# Altium integrated library TI_Logic_Specialty_Logic.IntLib: 2504 symbols (part 24 of 81)
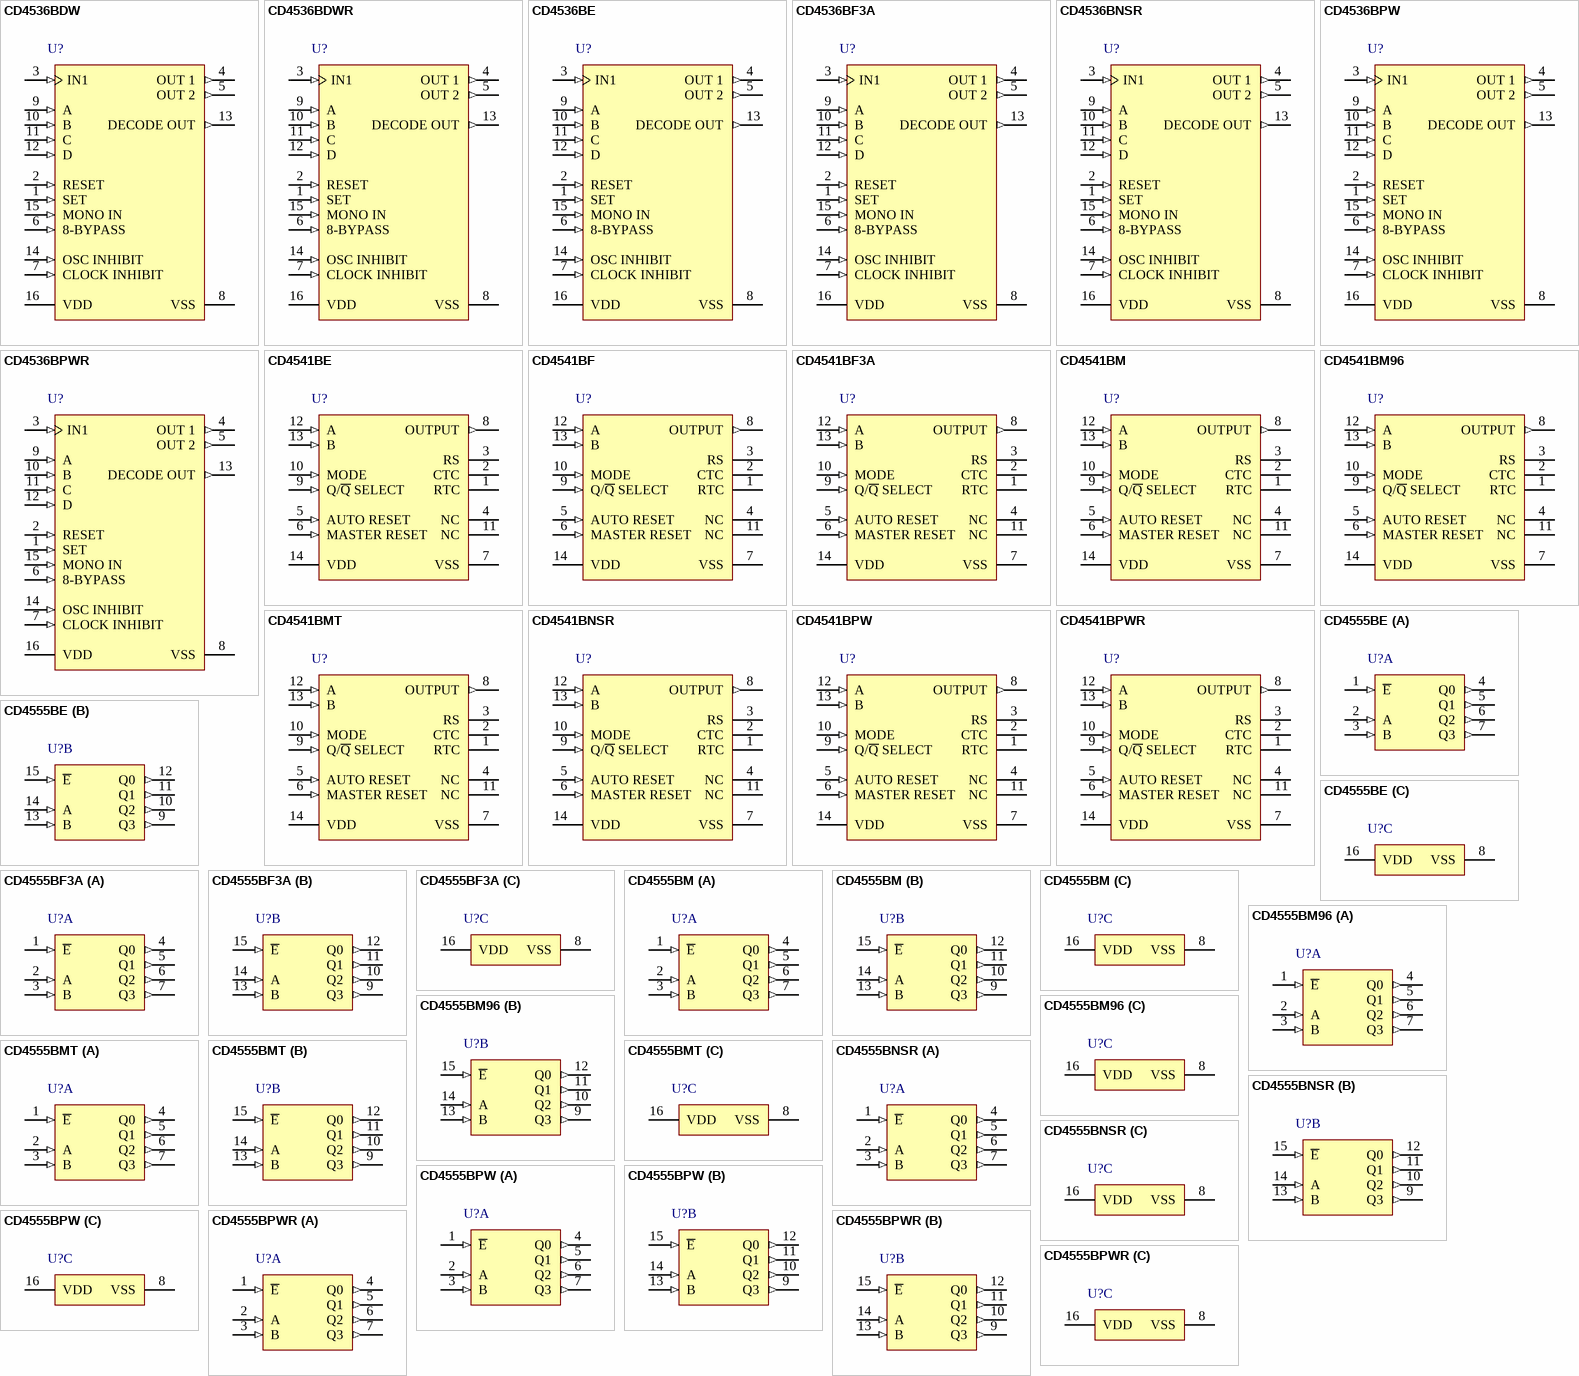
[diagram p127: symbols CD4536BDW to CD4555BPWR]

## CD4536BDWR
designator U?
CMOS Programmable Timer, DW0016A, LARGE T&R; Generic Part Number: CD4536B; Manufacturer: Texas Instruments; PartNumber: CD4536BDWR; VCC(Max)(V): 18; VCC(Min)(V): 3; ICC @ Nom Voltage(Max)(mA): 0.3; Bits(#): 4; F @ Nom Voltage(Max)(Mhz): 8; Rating: Catalog; Technology Family: CD4000; Voltage(Nom)(V): 10; Schmitt Trigger: No; Output Drive (IOL/IOH)(Max)(mA): 4/-4; tpd @ Nom Voltage(Max)(ns): 3000; DatasheetVersion: SCHS083B; PackageReference: DW0016A; Supplier 1: Mouser; Supplier Part Number 1: 595-CD4536BDWR; Supplier 2: Digi-Key; Supplier Part Number 2: 296-31536-2-ND; Supplier 3: Digi-Key; Supplier Part Number 3: 296-31536-1-ND; Supplier 4: Digi-Key; Supplier Part Number 4: 296-31536-6-ND; Output Type: CMOS; Input Type: CMOS; Operating Temperature Range(C): -55 to 125; ComponentLink1Description: Manufacturer URL; ComponentLink1URL: http://www.ti.com/; ComponentLink2Description: Datasheet; ComponentLink2URL: http://www.ti.com/lit/ds/symlink/cd4536b.pdf
footprint DW0016A_N (SOIC, 16-Leads, Body 10.5x7.6mm, Pitch 1.27mm, IPC Medium Density)
footprint DW0016A_M (SOIC, 16-Leads, Body 10.5x7.6mm, Pitch 1.27mm, IPC Low Density)
footprint DW0016A_L (SOIC, 16-Leads, Body 10.5x7.6mm, Pitch 1.27mm, IPC High Density)
pins: 1 SET (in), 2 RESET (in), 3 IN1 (in), 4 OUT 1 (out), 5 OUT 2 (out), 6 8-BYPASS (in), 7 CLOCK INHIBIT (in), 8 VSS (power), 9 A (in), 10 B (in), 11 C (in), 12 D (in), 13 DECODE OUT (out), 14 OSC INHIBIT (in), 15 MONO IN (in), 16 VDD (power)

## CD4536BE
designator U?
CMOS Programmable Timer, N0016A, TUBE; Generic Part Number: CD4536B; Manufacturer: Texas Instruments; PartNumber: CD4536BE; VCC(Max)(V): 18; VCC(Min)(V): 3; ICC @ Nom Voltage(Max)(mA): 0.3; Bits(#): 4; F @ Nom Voltage(Max)(Mhz): 8; Rating: Catalog; Technology Family: CD4000; Voltage(Nom)(V): 10; Schmitt Trigger: No; Output Drive (IOL/IOH)(Max)(mA): 4/-4; tpd @ Nom Voltage(Max)(ns): 3000; DatasheetVersion: SCHS083B; PackageReference: N0016A; Supplier 1: Mouser; Supplier Part Number 1: 595-CD4536BE; Supplier 2: Digi-Key; Supplier Part Number 2: 296-3534-5-ND; Output Type: CMOS; Input Type: CMOS; Operating Temperature Range(C): -55 to 125; ComponentLink1Description: Manufacturer URL; ComponentLink1URL: http://www.ti.com/; ComponentLink2Description: Datasheet; ComponentLink2URL: http://www.ti.com/lit/ds/symlink/cd4536b.pdf
footprint N0016A (DIP, 16-Leads, Body 19.7x6.6mm, Pitch 2.54mm)
pins: 1 SET (in), 2 RESET (in), 3 IN1 (in), 4 OUT 1 (out), 5 OUT 2 (out), 6 8-BYPASS (in), 7 CLOCK INHIBIT (in), 8 VSS (power), 9 A (in), 10 B (in), 11 C (in), 12 D (in), 13 DECODE OUT (out), 14 OSC INHIBIT (in), 15 MONO IN (in), 16 VDD (power)

## CD4536BF3A
designator U?
CMOS Programmable Timer, J0016A, TUBE; Generic Part Number: CD4536B-MIL; Manufacturer: Texas Instruments; PartNumber: CD4536BF3A; VCC(Max)(V): 18; VCC(Min)(V): 3; ICC @ Nom Voltage(Max)(mA): 0.3; Bits(#): 4; F @ Nom Voltage(Max)(Mhz): 8; Rating: Military; Technology Family: CD4000; Voltage(Nom)(V): 10; Output Drive (IOL/IOH)(Max)(mA): 4/-4; tpd @ Nom Voltage(Max)(ns): 3000; DatasheetVersion: SCHS083B; PackageReference: J0016A; Output Type: CMOS; Input Type: CMOS; Operating Temperature Range(C): -55 to 125; ComponentLink1Description: Manufacturer URL; ComponentLink1URL: http://www.ti.com/; ComponentLink2Description: Datasheet; ComponentLink2URL: http://www.ti.com/lit/ds/symlink/cd4536b-mil.pdf
footprint J0016A (DIP, 16-Leads, Body 21.35x7.2mm, Pitch 2.54mm)
pins: 1 SET (in), 2 RESET (in), 3 IN1 (in), 4 OUT 1 (out), 5 OUT 2 (out), 6 8-BYPASS (in), 7 CLOCK INHIBIT (in), 8 VSS (power), 9 A (in), 10 B (in), 11 C (in), 12 D (in), 13 DECODE OUT (out), 14 OSC INHIBIT (in), 15 MONO IN (in), 16 VDD (power)

## CD4536BNSR
designator U?
CMOS Programmable Timer, NS0016A, LARGE T&R; Generic Part Number: CD4536B; Manufacturer: Texas Instruments; PartNumber: CD4536BNSR; VCC(Max)(V): 18; VCC(Min)(V): 3; ICC @ Nom Voltage(Max)(mA): 0.3; Bits(#): 4; F @ Nom Voltage(Max)(Mhz): 8; Rating: Catalog; Technology Family: CD4000; Voltage(Nom)(V): 10; Schmitt Trigger: No; Output Drive (IOL/IOH)(Max)(mA): 4/-4; tpd @ Nom Voltage(Max)(ns): 3000; DatasheetVersion: SCHS083B; PackageReference: NS0016A; Supplier 1: Mouser; Supplier Part Number 1: 595-CD4536BNSR; Supplier 2: Digi-Key; Supplier Part Number 2: 296-14304-2-ND; Supplier 3: Digi-Key; Supplier Part Number 3: 296-14304-1-ND; Supplier 4: Digi-Key; Supplier Part Number 4: 296-14304-6-ND; Output Type: CMOS; Input Type: CMOS; Operating Temperature Range(C): -55 to 125; ComponentLink1Description: Manufacturer URL; ComponentLink1URL: http://www.ti.com/; ComponentLink2Description: Datasheet; ComponentLink2URL: http://www.ti.com/lit/ds/symlink/cd4536b.pdf
footprint NS0016A_N (SOIC,16-Leads,Body 10.5x5.6mm,Pitch 1.27mm,IPC Medium Density)
footprint NS0016A_M (SOIC,16-Leads,Body 10.5x5.6mm,Pitch 1.27mm,IPC Low Density)
footprint NS0016A_L (SOIC,16-Leads,Body 10.5x5.6mm,Pitch 1.27mm,IPC High Density)
pins: 1 SET (in), 2 RESET (in), 3 IN1 (in), 4 OUT 1 (out), 5 OUT 2 (out), 6 8-BYPASS (in), 7 CLOCK INHIBIT (in), 8 VSS (power), 9 A (in), 10 B (in), 11 C (in), 12 D (in), 13 DECODE OUT (out), 14 OSC INHIBIT (in), 15 MONO IN (in), 16 VDD (power)

## CD4536BPW
designator U?
CMOS Programmable Timer, PW0016A, TUBE; Generic Part Number: CD4536B; Manufacturer: Texas Instruments; PartNumber: CD4536BPW; VCC(Max)(V): 18; VCC(Min)(V): 3; ICC @ Nom Voltage(Max)(mA): 0.3; Bits(#): 4; F @ Nom Voltage(Max)(Mhz): 8; Rating: Catalog; Technology Family: CD4000; Voltage(Nom)(V): 10; Schmitt Trigger: No; Output Drive (IOL/IOH)(Max)(mA): 4/-4; tpd @ Nom Voltage(Max)(ns): 3000; DatasheetVersion: SCHS083B; PackageReference: PW0016A; Supplier 1: Mouser; Supplier Part Number 1: 595-CD4536BPW; Supplier 2: Digi-Key; Supplier Part Number 2: 296-32932-5-ND; Output Type: CMOS; Input Type: CMOS; Operating Temperature Range(C): -55 to 125; ComponentLink1Description: Manufacturer URL; ComponentLink1URL: http://www.ti.com/; ComponentLink2Description: Datasheet; ComponentLink2URL: http://www.ti.com/lit/ds/symlink/cd4536b.pdf
footprint PW0016A_N (SOP, 16-Leads, Body 5.1x4.5mm, Pitch 0.65mm, IPC Medium Density)
footprint PW0016A_M (SOP, 16-Leads, Body 5.1x4.5mm, Pitch 0.65mm, IPC Low Density)
footprint PW0016A_L (SOP, 16-Leads, Body 5.1x4.5mm, Pitch 0.65mm, IPC High Density)
pins: 1 SET (in), 2 RESET (in), 3 IN1 (in), 4 OUT 1 (out), 5 OUT 2 (out), 6 8-BYPASS (in), 7 CLOCK INHIBIT (in), 8 VSS (power), 9 A (in), 10 B (in), 11 C (in), 12 D (in), 13 DECODE OUT (out), 14 OSC INHIBIT (in), 15 MONO IN (in), 16 VDD (power)

## CD4536BPWR
designator U?
CMOS Programmable Timer, PW0016A, LARGE T&R; Generic Part Number: CD4536B; Manufacturer: Texas Instruments; PartNumber: CD4536BPWR; VCC(Max)(V): 18; VCC(Min)(V): 3; ICC @ Nom Voltage(Max)(mA): 0.3; Bits(#): 4; F @ Nom Voltage(Max)(Mhz): 8; Rating: Catalog; Technology Family: CD4000; Voltage(Nom)(V): 10; Schmitt Trigger: No; Output Drive (IOL/IOH)(Max)(mA): 4/-4; tpd @ Nom Voltage(Max)(ns): 3000; DatasheetVersion: SCHS083B; PackageReference: PW0016A; Supplier 1: Mouser; Supplier Part Number 1: 595-CD4536BPWR; Supplier 2: Digi-Key; Supplier Part Number 2: 296-31537-2-ND; Supplier 3: Digi-Key; Supplier Part Number 3: 296-31537-1-ND; Supplier 4: Digi-Key; Supplier Part Number 4: 296-31537-6-ND; Output Type: CMOS; Input Type: CMOS; Operating Temperature Range(C): -55 to 125; ComponentLink1Description: Manufacturer URL; ComponentLink1URL: http://www.ti.com/; ComponentLink2Description: Datasheet; ComponentLink2URL: http://www.ti.com/lit/ds/symlink/cd4536b.pdf
footprint PW0016A_N (SOP, 16-Leads, Body 5.1x4.5mm, Pitch 0.65mm, IPC Medium Density)
footprint PW0016A_M (SOP, 16-Leads, Body 5.1x4.5mm, Pitch 0.65mm, IPC Low Density)
footprint PW0016A_L (SOP, 16-Leads, Body 5.1x4.5mm, Pitch 0.65mm, IPC High Density)
pins: 1 SET (in), 2 RESET (in), 3 IN1 (in), 4 OUT 1 (out), 5 OUT 2 (out), 6 8-BYPASS (in), 7 CLOCK INHIBIT (in), 8 VSS (power), 9 A (in), 10 B (in), 11 C (in), 12 D (in), 13 DECODE OUT (out), 14 OSC INHIBIT (in), 15 MONO IN (in), 16 VDD (power)

## CD4541BE
designator U?
CMOS Programmable Timer - High Voltage Type (20V Rating), N0014A, TUBE; Generic Part Number: CD4541B; Manufacturer: Texas Instruments; PartNumber: CD4541BE; VCC(Max)(V): 18; VCC(Min)(V): 3; ICC @ Nom Voltage(Max)(mA): 0.3; Bits(#): 1; F @ Nom Voltage(Max)(Mhz): 8; Rating: Catalog; Technology Family: CD4000; Voltage(Nom)(V): 10; Schmitt Trigger: No; Output Drive (IOL/IOH)(Max)(mA): 4/-4; tpd @ Nom Voltage(Max)(ns): 10000; DatasheetVersion: SCHS085E; PackageReference: N0014A; Supplier 1: Mouser; Supplier Part Number 1: 595-CD4541BE; Supplier 2: Digi-Key; Supplier Part Number 2: 296-2078-5-ND; Output Type: CMOS; Input Type: CMOS; Operating Temperature Range(C): -55 to 125; ComponentLink1Description: Manufacturer URL; ComponentLink1URL: http://www.ti.com/; ComponentLink2Description: Datasheet; ComponentLink2URL: http://www.ti.com/lit/ds/symlink/cd4541b.pdf
footprint N0014A (DIP, 14-Leads, Body 19.7x6.6mm, Pitch 2.54mm)
pins: 1 RTC, 2 CTC, 3 RS, 4 NC, 5 AUTO RESET (in), 6 MASTER RESET (in), 7 VSS (power), 8 OUTPUT (out), 9 Q/~{Q} SELECT (in), 10 MODE (in), 11 NC, 12 A (in), 13 B (in), 14 VDD (power)

## CD4541BF
designator U?
CMOS Programmable Timer - High Voltage Type (20V Rating), J0014A, TUBE; Generic Part Number: CD4541B-MIL; Manufacturer: Texas Instruments; PartNumber: CD4541BF; VCC(Max)(V): 18; VCC(Min)(V): 3; ICC @ Nom Voltage(Max)(mA): 0.3; Bits(#): 1; F @ Nom Voltage(Max)(Mhz): 8; Rating: Military; Technology Family: CD4000; Voltage(Nom)(V): 10; Output Drive (IOL/IOH)(Max)(mA): 4/-4; tpd @ Nom Voltage(Max)(ns): 10000; DatasheetVersion: SCHS085E; PackageReference: J0014A; Output Type: CMOS; Input Type: CMOS; Operating Temperature Range(C): -55 to 125; ComponentLink1Description: Manufacturer URL; ComponentLink1URL: http://www.ti.com/; ComponentLink2Description: Datasheet; ComponentLink2URL: http://www.ti.com/lit/ds/symlink/cd4541b-mil.pdf
footprint J0014A (DIP, 14-Leads, Body 19.95x7.2mm, Pitch 2.54mm)
pins: 1 RTC, 2 CTC, 3 RS, 4 NC, 5 AUTO RESET (in), 6 MASTER RESET (in), 7 VSS (power), 8 OUTPUT (out), 9 Q/~{Q} SELECT (in), 10 MODE (in), 11 NC, 12 A (in), 13 B (in), 14 VDD (power)

## CD4541BF3A
designator U?
CMOS Programmable Timer - High Voltage Type (20V Rating), J0014A, TUBE; Generic Part Number: CD4541B-MIL; Manufacturer: Texas Instruments; PartNumber: CD4541BF3A; VCC(Max)(V): 18; VCC(Min)(V): 3; ICC @ Nom Voltage(Max)(mA): 0.3; Bits(#): 1; F @ Nom Voltage(Max)(Mhz): 8; Rating: Military; Technology Family: CD4000; Voltage(Nom)(V): 10; Output Drive (IOL/IOH)(Max)(mA): 4/-4; tpd @ Nom Voltage(Max)(ns): 10000; DatasheetVersion: SCHS085E; PackageReference: J0014A; Output Type: CMOS; Input Type: CMOS; Operating Temperature Range(C): -55 to 125; ComponentLink1Description: Manufacturer URL; ComponentLink1URL: http://www.ti.com/; ComponentLink2Description: Datasheet; ComponentLink2URL: http://www.ti.com/lit/ds/symlink/cd4541b-mil.pdf
footprint J0014A (DIP, 14-Leads, Body 19.95x7.2mm, Pitch 2.54mm)
pins: 1 RTC, 2 CTC, 3 RS, 4 NC, 5 AUTO RESET (in), 6 MASTER RESET (in), 7 VSS (power), 8 OUTPUT (out), 9 Q/~{Q} SELECT (in), 10 MODE (in), 11 NC, 12 A (in), 13 B (in), 14 VDD (power)

## CD4541BM
designator U?
CMOS Programmable Timer - High Voltage Type (20V Rating), D0014A, TUBE; Generic Part Number: CD4541B; Manufacturer: Texas Instruments; PartNumber: CD4541BM; VCC(Max)(V): 18; VCC(Min)(V): 3; ICC @ Nom Voltage(Max)(mA): 0.3; Bits(#): 1; F @ Nom Voltage(Max)(Mhz): 8; Rating: Catalog; Technology Family: CD4000; Voltage(Nom)(V): 10; Schmitt Trigger: No; Output Drive (IOL/IOH)(Max)(mA): 4/-4; tpd @ Nom Voltage(Max)(ns): 10000; DatasheetVersion: SCHS085E; PackageReference: D0014A; Supplier 1: Mouser; Supplier Part Number 1: 595-CD4541BM; Supplier 2: Digi-Key; Supplier Part Number 2: 296-3535-5-ND; Output Type: CMOS; Input Type: CMOS; Operating Temperature Range(C): -55 to 125; ComponentLink1Description: Manufacturer URL; ComponentLink1URL: http://www.ti.com/; ComponentLink2Description: Datasheet; ComponentLink2URL: http://www.ti.com/lit/ds/symlink/cd4541b.pdf
footprint D0014A_N (SOIC, 14-Leads, Body 8.75x4mm, Pitch 1.27mm, IPC Medium Density)
footprint D0014A_M (SOIC, 14-Leads, Body 8.75x4mm, Pitch 1.27mm, IPC Low Density)
footprint D0014A_L (SOIC, 14-Leads, Body 8.75x4mm, Pitch 1.27mm, IPC High Density)
pins: 1 RTC, 2 CTC, 3 RS, 4 NC, 5 AUTO RESET (in), 6 MASTER RESET (in), 7 VSS (power), 8 OUTPUT (out), 9 Q/~{Q} SELECT (in), 10 MODE (in), 11 NC, 12 A (in), 13 B (in), 14 VDD (power)

## CD4541BM96
designator U?
CMOS Programmable Timer - High Voltage Type (20V Rating), D0014A, LARGE T&R; Generic Part Number: CD4541B; Manufacturer: Texas Instruments; PartNumber: CD4541BM96; VCC(Max)(V): 18; VCC(Min)(V): 3; ICC @ Nom Voltage(Max)(mA): 0.3; Bits(#): 1; F @ Nom Voltage(Max)(Mhz): 8; Rating: Catalog; Technology Family: CD4000; Voltage(Nom)(V): 10; Schmitt Trigger: No; Output Drive (IOL/IOH)(Max)(mA): 4/-4; tpd @ Nom Voltage(Max)(ns): 10000; DatasheetVersion: SCHS085E; PackageReference: D0014A; Supplier 1: Mouser; Supplier Part Number 1: 595-CD4541BM96; Supplier 2: Digi-Key; Supplier Part Number 2: 296-3536-2-ND; Supplier 3: Digi-Key; Supplier Part Number 3: 296-3536-1-ND; Supplier 4: Digi-Key; Supplier Part Number 4: 296-3536-6-ND; Output Type: CMOS; Input Type: CMOS; Operating Temperature Range(C): -55 to 125; ComponentLink1Description: Manufacturer URL; ComponentLink1URL: http://www.ti.com/; ComponentLink2Description: Datasheet; ComponentLink2URL: http://www.ti.com/lit/ds/symlink/cd4541b.pdf
footprint D0014A_N (SOIC, 14-Leads, Body 8.75x4mm, Pitch 1.27mm, IPC Medium Density)
footprint D0014A_M (SOIC, 14-Leads, Body 8.75x4mm, Pitch 1.27mm, IPC Low Density)
footprint D0014A_L (SOIC, 14-Leads, Body 8.75x4mm, Pitch 1.27mm, IPC High Density)
pins: 1 RTC, 2 CTC, 3 RS, 4 NC, 5 AUTO RESET (in), 6 MASTER RESET (in), 7 VSS (power), 8 OUTPUT (out), 9 Q/~{Q} SELECT (in), 10 MODE (in), 11 NC, 12 A (in), 13 B (in), 14 VDD (power)

## CD4541BMT
designator U?
CMOS Programmable Timer - High Voltage Type (20V Rating), D0014A, SMALL T&R; Generic Part Number: CD4541B; Manufacturer: Texas Instruments; PartNumber: CD4541BMT; VCC(Max)(V): 18; VCC(Min)(V): 3; ICC @ Nom Voltage(Max)(mA): 0.3; Bits(#): 1; F @ Nom Voltage(Max)(Mhz): 8; Rating: Catalog; Technology Family: CD4000; Voltage(Nom)(V): 10; Schmitt Trigger: No; Output Drive (IOL/IOH)(Max)(mA): 4/-4; tpd @ Nom Voltage(Max)(ns): 10000; DatasheetVersion: SCHS085E; PackageReference: D0014A; Supplier 1: Mouser; Supplier Part Number 1: 595-CD4541BMT; Supplier 2: Digi-Key; Supplier Part Number 2: 296-28573-2-ND; Supplier 3: Digi-Key; Supplier Part Number 3: 296-28573-1-ND; Supplier 4: Digi-Key; Supplier Part Number 4: 296-28573-6-ND; Output Type: CMOS; Input Type: CMOS; Operating Temperature Range(C): -55 to 125; ComponentLink1Description: Manufacturer URL; ComponentLink1URL: http://www.ti.com/; ComponentLink2Description: Datasheet; ComponentLink2URL: http://www.ti.com/lit/ds/symlink/cd4541b.pdf
footprint D0014A_N (SOIC, 14-Leads, Body 8.75x4mm, Pitch 1.27mm, IPC Medium Density)
footprint D0014A_M (SOIC, 14-Leads, Body 8.75x4mm, Pitch 1.27mm, IPC Low Density)
footprint D0014A_L (SOIC, 14-Leads, Body 8.75x4mm, Pitch 1.27mm, IPC High Density)
pins: 1 RTC, 2 CTC, 3 RS, 4 NC, 5 AUTO RESET (in), 6 MASTER RESET (in), 7 VSS (power), 8 OUTPUT (out), 9 Q/~{Q} SELECT (in), 10 MODE (in), 11 NC, 12 A (in), 13 B (in), 14 VDD (power)

## CD4541BNSR
designator U?
CMOS Programmable Timer - High Voltage Type (20V Rating), NS0014A, LARGE T&R; Generic Part Number: CD4541B; Manufacturer: Texas Instruments; PartNumber: CD4541BNSR; VCC(Max)(V): 18; VCC(Min)(V): 3; ICC @ Nom Voltage(Max)(mA): 0.3; Bits(#): 1; F @ Nom Voltage(Max)(Mhz): 8; Rating: Catalog; Technology Family: CD4000; Voltage(Nom)(V): 10; Schmitt Trigger: No; Output Drive (IOL/IOH)(Max)(mA): 4/-4; tpd @ Nom Voltage(Max)(ns): 10000; DatasheetVersion: SCHS085E; PackageReference: NS0014A; Supplier 1: Mouser; Supplier Part Number 1: 595-CD4541BNSR; Supplier 2: Digi-Key; Supplier Part Number 2: 296-28695-2-ND; Supplier 3: Digi-Key; Supplier Part Number 3: 296-28695-1-ND; Supplier 4: Digi-Key; Supplier Part Number 4: 296-28695-6-ND; Output Type: CMOS; Input Type: CMOS; Operating Temperature Range(C): -55 to 125; ComponentLink1Description: Manufacturer URL; ComponentLink1URL: http://www.ti.com/; ComponentLink2Description: Datasheet; ComponentLink2URL: http://www.ti.com/lit/ds/symlink/cd4541b.pdf
footprint NS0014A_N (SOIC,14-Leads,Body 10.5x5.6mm,Pitch 1.27mm,IPC Medium Density)
footprint NS0014A_M (SOIC,14-Leads,Body 10.5x5.6mm,Pitch 1.27mm,IPC Low Density)
footprint NS0014A_L (SOIC,14-Leads,Body 10.5x5.6mm,Pitch 0.4mm,IPC High Density)
pins: 1 RTC, 2 CTC, 3 RS, 4 NC, 5 AUTO RESET (in), 6 MASTER RESET (in), 7 VSS (power), 8 OUTPUT (out), 9 Q/~{Q} SELECT (in), 10 MODE (in), 11 NC, 12 A (in), 13 B (in), 14 VDD (power)

## CD4541BPW
designator U?
CMOS Programmable Timer - High Voltage Type (20V Rating), PW0014A, TUBE; Generic Part Number: CD4541B; Manufacturer: Texas Instruments; PartNumber: CD4541BPW; VCC(Max)(V): 18; VCC(Min)(V): 3; ICC @ Nom Voltage(Max)(mA): 0.3; Bits(#): 1; F @ Nom Voltage(Max)(Mhz): 8; Rating: Catalog; Technology Family: CD4000; Voltage(Nom)(V): 10; Schmitt Trigger: No; Output Drive (IOL/IOH)(Max)(mA): 4/-4; tpd @ Nom Voltage(Max)(ns): 10000; DatasheetVersion: SCHS085E; PackageReference: PW0014A; Supplier 1: Mouser; Supplier Part Number 1: 595-CD4541BPW; Supplier 2: Digi-Key; Supplier Part Number 2: 296-32933-5-ND; Output Type: CMOS; Input Type: CMOS; Operating Temperature Range(C): -55 to 125; ComponentLink1Description: Manufacturer URL; ComponentLink1URL: http://www.ti.com/; ComponentLink2Description: Datasheet; ComponentLink2URL: http://www.ti.com/lit/ds/symlink/cd4541b.pdf
footprint PW0014A_N (SOP, 14-Leads, Body 5.1x4.5mm, Pitch 0.65mm, IPC Medium Density)
footprint PW0014A_M (SOP, 14-Leads, Body 5.1x4.5mm, Pitch 0.65mm, IPC Low Density)
footprint PW0014A_L (SOP, 14-Leads, Body 5.1x4.5mm, Pitch 0.65mm, IPC High Density)
pins: 1 RTC, 2 CTC, 3 RS, 4 NC, 5 AUTO RESET (in), 6 MASTER RESET (in), 7 VSS (power), 8 OUTPUT (out), 9 Q/~{Q} SELECT (in), 10 MODE (in), 11 NC, 12 A (in), 13 B (in), 14 VDD (power)

## CD4541BPWR
designator U?
CMOS Programmable Timer - High Voltage Type (20V Rating), PW0014A, LARGE T&R; Generic Part Number: CD4541B; Manufacturer: Texas Instruments; PartNumber: CD4541BPWR; VCC(Max)(V): 18; VCC(Min)(V): 3; ICC @ Nom Voltage(Max)(mA): 0.3; Bits(#): 1; F @ Nom Voltage(Max)(Mhz): 8; Rating: Catalog; Technology Family: CD4000; Voltage(Nom)(V): 10; Schmitt Trigger: No; Output Drive (IOL/IOH)(Max)(mA): 4/-4; tpd @ Nom Voltage(Max)(ns): 10000; DatasheetVersion: SCHS085E; PackageReference: PW0014A; Supplier 1: Mouser; Supplier Part Number 1: 595-CD4541BPWR; Supplier 2: Digi-Key; Supplier Part Number 2: 296-31538-2-ND; Supplier 3: Digi-Key; Supplier Part Number 3: 296-31538-1-ND; Supplier 4: Digi-Key; Supplier Part Number 4: 296-31538-6-ND; Output Type: CMOS; Input Type: CMOS; Operating Temperature Range(C): -55 to 125; ComponentLink1Description: Manufacturer URL; ComponentLink1URL: http://www.ti.com/; ComponentLink2Description: Datasheet; ComponentLink2URL: http://www.ti.com/lit/ds/symlink/cd4541b.pdf
footprint PW0014A_N (SOP, 14-Leads, Body 5.1x4.5mm, Pitch 0.65mm, IPC Medium Density)
footprint PW0014A_M (SOP, 14-Leads, Body 5.1x4.5mm, Pitch 0.65mm, IPC Low Density)
footprint PW0014A_L (SOP, 14-Leads, Body 5.1x4.5mm, Pitch 0.65mm, IPC High Density)
pins: 1 RTC, 2 CTC, 3 RS, 4 NC, 5 AUTO RESET (in), 6 MASTER RESET (in), 7 VSS (power), 8 OUTPUT (out), 9 Q/~{Q} SELECT (in), 10 MODE (in), 11 NC, 12 A (in), 13 B (in), 14 VDD (power)

## CD4555BE
designator U?
CMOS Dual Binary to 1-of-4 Decoder/Demultiplexer with Outputs High on Select, N0016A, TUBE; Generic Part Number: CD4555B; Manufacturer: Texas Instruments; PartNumber: CD4555BE; VCC(Max)(V): 18; VCC(Min)(V): 3; ICC @ Nom Voltage(Max)(mA): 0.3; Bits(#): 4; F @ Nom Voltage(Max)(Mhz): 8; Configuration: 1：4; Channels(#): 2; Rating: Catalog; Technology Family: CD4000; Voltage(Nom)(V): 5,10,15; Schmitt Trigger: No; Output Drive (IOL/IOH)(Max)(mA): 1.5/-1.5; tpd @ Nom Voltage(Max)(ns): 190; DatasheetVersion: SCHS087D; PackageReference: N0016A; Supplier 1: Mouser; Supplier Part Number 1: 595-CD4555BE; Supplier 2: Digi-Key; Supplier Part Number 2: 296-14286-5-ND; Output Type: CMOS; Function: Decoder/Demultiplexer; Input Type: CMOS; Operating Temperature Range(C): -55 to 125; Type: Standard; Code_JEDEC: MS-001; ComponentLink1Description: Manufacturer URL; ComponentLink1URL: http://www.ti.com/; ComponentLink2Description: Datasheet; ComponentLink2URL: http://www.ti.com/lit/ds/symlink/cd4555b.pdf; ComponentLink3Description: Package Specification; ComponentLink3URL: http://www.ti.com/lit/ml/mpdi002c/mpdi002c.pdf
footprint N0016A (DIP, 16-Leads, Body 19.7x6.6mm, Pitch 2.54mm)
part A pins: 1 ~{E} (in), 2 A (in), 3 B (in), 4 Q0 (out), 5 Q1 (out), 6 Q2 (out), 7 Q3 (out)
part B pins: 9 Q3 (out), 10 Q2 (out), 11 Q1 (out), 12 Q0 (out), 13 B (in), 14 A (in), 15 ~{E} (in)
part C pins: 8 VSS (power), 16 VDD (power)

## CD4555BF3A
designator U?
CMOS Dual Binary to 1-of-4 Decoder/Demultiplexer with Outputs High on Select, J0016A, TUBE; Generic Part Number: CD4555B-MIL; Manufacturer: Texas Instruments; PartNumber: CD4555BF3A; VCC(Max)(V): 18; VCC(Min)(V): 3; ICC @ Nom Voltage(Max)(mA): 0.3; F @ Nom Voltage(Max)(Mhz): 8; Channels(#): 2; Rating: Military; Technology Family: CD4000; Voltage(Nom)(V): 10; Schmitt Trigger: No; Output Drive (IOL/IOH)(Max)(mA): 1.5/-1.5; tpd @ Nom Voltage(Max)(ns): 190; DatasheetVersion: SCHS087D; PackageReference: J0016A; Output Type: CMOS; Input Type: CMOS; Operating Temperature Range(C): -55 to 125; ComponentLink1Description: Manufacturer URL; ComponentLink1URL: http://www.ti.com/; ComponentLink2Description: Datasheet; ComponentLink2URL: http://www.ti.com/lit/ds/symlink/cd4555b-mil.pdf; ComponentLink3Description: Package Specification; ComponentLink3URL: http://www.ti.com/lit/ml/mcer002d/mcer002d.pdf
footprint J0016A (DIP, 16-Leads, Body 21.35x7.2mm, Pitch 2.54mm)
part A pins: 1 ~{E} (in), 2 A (in), 3 B (in), 4 Q0 (out), 5 Q1 (out), 6 Q2 (out), 7 Q3 (out)
part B pins: 9 Q3 (out), 10 Q2 (out), 11 Q1 (out), 12 Q0 (out), 13 B (in), 14 A (in), 15 ~{E} (in)
part C pins: 8 VSS (power), 16 VDD (power)

## CD4555BM
designator U?
CMOS Dual Binary to 1-of-4 Decoder/Demultiplexer with Outputs High on Select, D0016A, TUBE; Generic Part Number: CD4555B; Manufacturer: Texas Instruments; PartNumber: CD4555BM; VCC(Max)(V): 18; VCC(Min)(V): 3; ICC @ Nom Voltage(Max)(mA): 0.3; Bits(#): 4; F @ Nom Voltage(Max)(Mhz): 8; Configuration: 1：4; Channels(#): 2; Rating: Catalog; Technology Family: CD4000; Voltage(Nom)(V): 5,10,15; Schmitt Trigger: No; Output Drive (IOL/IOH)(Max)(mA): 1.5/-1.5; tpd @ Nom Voltage(Max)(ns): 190; DatasheetVersion: SCHS087D; PackageReference: D0016A; Supplier 1: Mouser; Supplier Part Number 1: 595-CD4555BM; Supplier 2: Digi-Key; Supplier Part Number 2: 296-32935-5-ND; Output Type: CMOS; Function: Decoder/Demultiplexer; Input Type: CMOS; Operating Temperature Range(C): -55 to 125; Type: Standard; Code_JEDEC: MS-012 variation AC; ComponentLink1Description: Manufacturer URL; ComponentLink1URL: http://www.ti.com/; ComponentLink2Description: Datasheet; ComponentLink2URL: http://www.ti.com/lit/ds/symlink/cd4555b.pdf; ComponentLink3Description: Package Specification; ComponentLink3URL: http://www.ti.com/lit/ml/mpds178g/mpds178g.pdf
footprint D0016A_N (SOIC, 16-Leads, Body 10x4mm, Pitch 1.27mm, IPC Medium Density)
footprint D0016A_M (SOIC, 16-Leads, Body 10x4mm, Pitch 1.27mm, IPC Low Density)
footprint D0016A_L (SOIC, 16-Leads, Body 10x4mm, Pitch 1.27mm, IPC High Density)
part A pins: 1 ~{E} (in), 2 A (in), 3 B (in), 4 Q0 (out), 5 Q1 (out), 6 Q2 (out), 7 Q3 (out)
part B pins: 9 Q3 (out), 10 Q2 (out), 11 Q1 (out), 12 Q0 (out), 13 B (in), 14 A (in), 15 ~{E} (in)
part C pins: 8 VSS (power), 16 VDD (power)

## CD4555BM96
designator U?
CMOS Dual Binary to 1-of-4 Decoder/Demultiplexer with Outputs High on Select, D0016A, LARGE T&R; Generic Part Number: CD4555B; Manufacturer: Texas Instruments; PartNumber: CD4555BM96; VCC(Max)(V): 18; VCC(Min)(V): 3; ICC @ Nom Voltage(Max)(mA): 0.3; Bits(#): 4; F @ Nom Voltage(Max)(Mhz): 8; Configuration: 1：4; Channels(#): 2; Rating: Catalog; Technology Family: CD4000; Voltage(Nom)(V): 5,10,15; Schmitt Trigger: No; Output Drive (IOL/IOH)(Max)(mA): 1.5/-1.5; tpd @ Nom Voltage(Max)(ns): 190; DatasheetVersion: SCHS087D; PackageReference: D0016A; Supplier 1: Mouser; Supplier Part Number 1: 595-CD4555BM96; Supplier 2: Digi-Key; Supplier Part Number 2: CD4555BM96-ND; Output Type: CMOS; Function: Decoder/Demultiplexer; Input Type: CMOS; Operating Temperature Range(C): -55 to 125; Type: Standard; Code_JEDEC: MS-012 variation AC; ComponentLink1Description: Manufacturer URL; ComponentLink1URL: http://www.ti.com/; ComponentLink2Description: Datasheet; ComponentLink2URL: http://www.ti.com/lit/ds/symlink/cd4555b.pdf; ComponentLink3Description: Package Specification; ComponentLink3URL: http://www.ti.com/lit/ml/mpds178g/mpds178g.pdf
footprint D0016A_N (SOIC, 16-Leads, Body 10x4mm, Pitch 1.27mm, IPC Medium Density)
footprint D0016A_M (SOIC, 16-Leads, Body 10x4mm, Pitch 1.27mm, IPC Low Density)
footprint D0016A_L (SOIC, 16-Leads, Body 10x4mm, Pitch 1.27mm, IPC High Density)
part A pins: 1 ~{E} (in), 2 A (in), 3 B (in), 4 Q0 (out), 5 Q1 (out), 6 Q2 (out), 7 Q3 (out)
part B pins: 9 Q3 (out), 10 Q2 (out), 11 Q1 (out), 12 Q0 (out), 13 B (in), 14 A (in), 15 ~{E} (in)
part C pins: 8 VSS (power), 16 VDD (power)

## CD4555BMT
designator U?
CMOS Dual Binary to 1-of-4 Decoder/Demultiplexer with Outputs High on Select, D0016A, SMALL T&R; Generic Part Number: CD4555B; Manufacturer: Texas Instruments; PartNumber: CD4555BMT; VCC(Max)(V): 18; VCC(Min)(V): 3; ICC @ Nom Voltage(Max)(mA): 0.3; Bits(#): 4; F @ Nom Voltage(Max)(Mhz): 8; Configuration: 1：4; Channels(#): 2; Rating: Catalog; Technology Family: CD4000; Voltage(Nom)(V): 5,10,15; Schmitt Trigger: No; Output Drive (IOL/IOH)(Max)(mA): 1.5/-1.5; tpd @ Nom Voltage(Max)(ns): 190; DatasheetVersion: SCHS087D; PackageReference: D0016A; Supplier 1: Mouser; Supplier Part Number 1: 595-CD4555BMT; Supplier 2: Digi-Key; Supplier Part Number 2: CD4555BMT-ND; Output Type: CMOS; Function: Decoder/Demultiplexer; Input Type: CMOS; Operating Temperature Range(C): -55 to 125; Type: Standard; Code_JEDEC: MS-012 variation AC; ComponentLink1Description: Manufacturer URL; ComponentLink1URL: http://www.ti.com/; ComponentLink2Description: Datasheet; ComponentLink2URL: http://www.ti.com/lit/ds/symlink/cd4555b.pdf; ComponentLink3Description: Package Specification; ComponentLink3URL: http://www.ti.com/lit/ml/mpds178g/mpds178g.pdf
footprint D0016A_N (SOIC, 16-Leads, Body 10x4mm, Pitch 1.27mm, IPC Medium Density)
footprint D0016A_M (SOIC, 16-Leads, Body 10x4mm, Pitch 1.27mm, IPC Low Density)
footprint D0016A_L (SOIC, 16-Leads, Body 10x4mm, Pitch 1.27mm, IPC High Density)
part A pins: 1 ~{E} (in), 2 A (in), 3 B (in), 4 Q0 (out), 5 Q1 (out), 6 Q2 (out), 7 Q3 (out)
part B pins: 9 Q3 (out), 10 Q2 (out), 11 Q1 (out), 12 Q0 (out), 13 B (in), 14 A (in), 15 ~{E} (in)
part C pins: 8 VSS (power), 16 VDD (power)

## CD4555BNSR
designator U?
CMOS Dual Binary to 1-of-4 Decoder/Demultiplexer with Outputs High on Select, NS0016A, LARGE T&R; Generic Part Number: CD4555B; Manufacturer: Texas Instruments; PartNumber: CD4555BNSR; VCC(Max)(V): 18; VCC(Min)(V): 3; ICC @ Nom Voltage(Max)(mA): 0.3; Bits(#): 4; F @ Nom Voltage(Max)(Mhz): 8; Configuration: 1：4; Channels(#): 2; Rating: Catalog; Technology Family: CD4000; Voltage(Nom)(V): 5,10,15; Schmitt Trigger: No; Output Drive (IOL/IOH)(Max)(mA): 1.5/-1.5; tpd @ Nom Voltage(Max)(ns): 190; DatasheetVersion: SCHS087D; PackageReference: NS0016A; Supplier 1: Mouser; Supplier Part Number 1: 595-CD4555BNSR; Supplier 2: Digi-Key; Supplier Part Number 2: 296-28469-2-ND; Supplier 3: Digi-Key; Supplier Part Number 3: 296-28469-1-ND; Supplier 4: Digi-Key; Supplier Part Number 4: 296-28469-6-ND; Output Type: CMOS; Function: Decoder/Demultiplexer; Input Type: CMOS; Operating Temperature Range(C): -55 to 125; Type: Standard; ComponentLink1Description: Manufacturer URL; ComponentLink1URL: http://www.ti.com/; ComponentLink2Description: Datasheet; ComponentLink2URL: http://www.ti.com/lit/ds/symlink/cd4555b.pdf; ComponentLink3Description: Package Specification; ComponentLink3URL: http://www.ti.com/lit/ml/msop002a/msop002a.pdf
footprint NS0016A_N (SOIC,16-Leads,Body 10.5x5.6mm,Pitch 1.27mm,IPC Medium Density)
footprint NS0016A_M (SOIC,16-Leads,Body 10.5x5.6mm,Pitch 1.27mm,IPC Low Density)
footprint NS0016A_L (SOIC,16-Leads,Body 10.5x5.6mm,Pitch 1.27mm,IPC High Density)
part A pins: 1 ~{E} (in), 2 A (in), 3 B (in), 4 Q0 (out), 5 Q1 (out), 6 Q2 (out), 7 Q3 (out)
part B pins: 9 Q3 (out), 10 Q2 (out), 11 Q1 (out), 12 Q0 (out), 13 B (in), 14 A (in), 15 ~{E} (in)
part C pins: 8 VSS (power), 16 VDD (power)

## CD4555BPW
designator U?
CMOS Dual Binary to 1-of-4 Decoder/Demultiplexer with Outputs High on Select, PW0016A, TUBE; Generic Part Number: CD4555B; Manufacturer: Texas Instruments; PartNumber: CD4555BPW; VCC(Max)(V): 18; VCC(Min)(V): 3; ICC @ Nom Voltage(Max)(mA): 0.3; Bits(#): 4; F @ Nom Voltage(Max)(Mhz): 8; Configuration: 1：4; Channels(#): 2; Rating: Catalog; Technology Family: CD4000; Voltage(Nom)(V): 5,10,15; Schmitt Trigger: No; Output Drive (IOL/IOH)(Max)(mA): 1.5/-1.5; tpd @ Nom Voltage(Max)(ns): 190; DatasheetVersion: SCHS087D; PackageReference: PW0016A; Supplier 1: Mouser; Supplier Part Number 1: 595-CD4555BPW; Supplier 2: Digi-Key; Supplier Part Number 2: 296-32936-5-ND; Output Type: CMOS; Function: Decoder/Demultiplexer; Input Type: CMOS; Operating Temperature Range(C): -55 to 125; Type: Standard; Code_JEDEC: MO-153; ComponentLink1Description: Manufacturer URL; ComponentLink1URL: http://www.ti.com/; ComponentLink2Description: Datasheet; ComponentLink2URL: http://www.ti.com/lit/ds/symlink/cd4555b.pdf; ComponentLink3Description: Package Specification; ComponentLink3URL: http://www.ti.com/lit/ml/mpds361/mpds361.pdf
footprint PW0016A_N (SOP, 16-Leads, Body 5.1x4.5mm, Pitch 0.65mm, IPC Medium Density)
footprint PW0016A_M (SOP, 16-Leads, Body 5.1x4.5mm, Pitch 0.65mm, IPC Low Density)
footprint PW0016A_L (SOP, 16-Leads, Body 5.1x4.5mm, Pitch 0.65mm, IPC High Density)
part A pins: 1 ~{E} (in), 2 A (in), 3 B (in), 4 Q0 (out), 5 Q1 (out), 6 Q2 (out), 7 Q3 (out)
part B pins: 9 Q3 (out), 10 Q2 (out), 11 Q1 (out), 12 Q0 (out), 13 B (in), 14 A (in), 15 ~{E} (in)
part C pins: 8 VSS (power), 16 VDD (power)

## CD4555BPWR
designator U?
CMOS Dual Binary to 1-of-4 Decoder/Demultiplexer with Outputs High on Select, PW0016A, LARGE T&R; Generic Part Number: CD4555B; Manufacturer: Texas Instruments; PartNumber: CD4555BPWR; VCC(Max)(V): 18; VCC(Min)(V): 3; ICC @ Nom Voltage(Max)(mA): 0.3; Bits(#): 4; F @ Nom Voltage(Max)(Mhz): 8; Configuration: 1：4; Channels(#): 2; Rating: Catalog; Technology Family: CD4000; Voltage(Nom)(V): 5,10,15; Schmitt Trigger: No; Output Drive (IOL/IOH)(Max)(mA): 1.5/-1.5; tpd @ Nom Voltage(Max)(ns): 190; DatasheetVersion: SCHS087D; PackageReference: PW0016A; Supplier 1: Mouser; Supplier Part Number 1: 595-CD4555BPWR; Supplier 2: Digi-Key; Supplier Part Number 2: 296-31540-2-ND; Supplier 3: Digi-Key; Supplier Part Number 3: 296-31540-1-ND; Supplier 4: Digi-Key; Supplier Part Number 4: 296-31540-6-ND; Output Type: CMOS; Function: Decoder/Demultiplexer; Input Type: CMOS; Operating Temperature Range(C): -55 to 125; Type: Standard; Code_JEDEC: MO-153; ComponentLink1Description: Manufacturer URL; ComponentLink1URL: http://www.ti.com/; ComponentLink2Description: Datasheet; ComponentLink2URL: http://www.ti.com/lit/ds/symlink/cd4555b.pdf; ComponentLink3Description: Package Specification; ComponentLink3URL: http://www.ti.com/lit/ml/mpds361/mpds361.pdf
footprint PW0016A_N (SOP, 16-Leads, Body 5.1x4.5mm, Pitch 0.65mm, IPC Medium Density)
footprint PW0016A_M (SOP, 16-Leads, Body 5.1x4.5mm, Pitch 0.65mm, IPC Low Density)
footprint PW0016A_L (SOP, 16-Leads, Body 5.1x4.5mm, Pitch 0.65mm, IPC High Density)
part A pins: 1 ~{E} (in), 2 A (in), 3 B (in), 4 Q0 (out), 5 Q1 (out), 6 Q2 (out), 7 Q3 (out)
part B pins: 9 Q3 (out), 10 Q2 (out), 11 Q1 (out), 12 Q0 (out), 13 B (in), 14 A (in), 15 ~{E} (in)
part C pins: 8 VSS (power), 16 VDD (power)

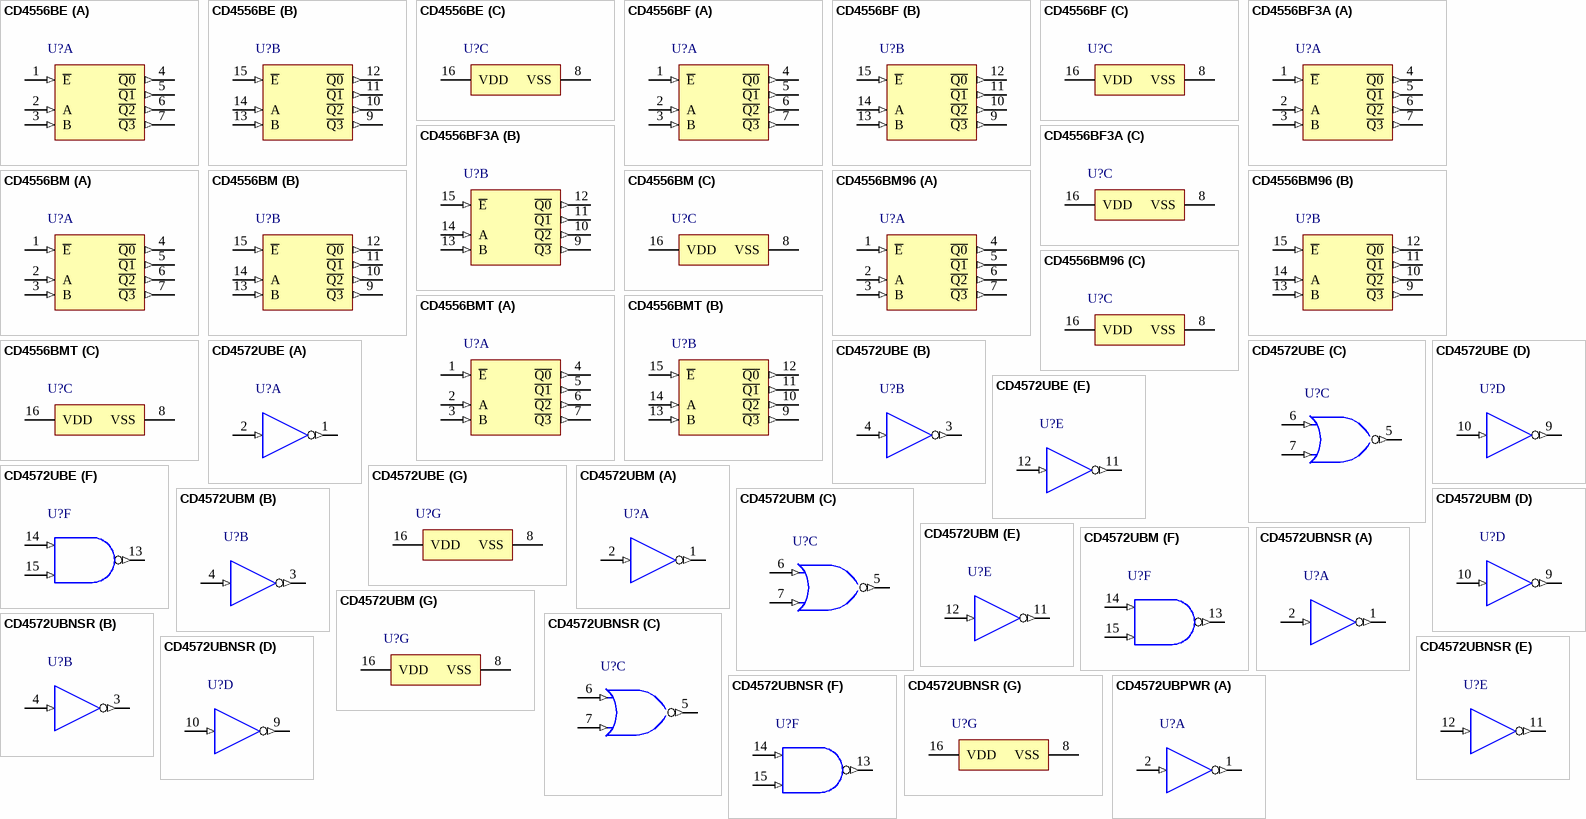
[diagram p32: symbols CD4556BE to CD4572UBPWR]

## CD4556BE
designator U?
CMOS Dual Binary to 1-of-4 Decoder/Demultiplexer with Outputs Low on Select, N0016A, TUBE; Generic Part Number: CD4556B; Manufacturer: Texas Instruments; PartNumber: CD4556BE; VCC(Max)(V): 18; VCC(Min)(V): 3; ICC @ Nom Voltage(Max)(mA): 0.3; F @ Nom Voltage(Max)(Mhz): 8; Configuration: 1：4; Channels(#): 2; Rating: Military; Technology Family: CD4000; Voltage(Nom)(V): 10; Schmitt Trigger: No; Output Drive (IOL/IOH)(Max)(mA): 1.5/-1.5; tpd @ Nom Voltage(Max)(ns): 190; DatasheetVersion: SCHS087D; PackageReference: N0016A; Supplier 1: Mouser; Supplier Part Number 1: 595-CD4556BE; Supplier 2: Digi-Key; Supplier Part Number 2: 296-3537-5-ND; Output Type: CMOS; Function: Decoder/Demultiplexer; Input Type: CMOS; Operating Temperature Range(C): -55 to 125; Type: Standard; Code_JEDEC: MS-001; ComponentLink1Description: Manufacturer URL; ComponentLink1URL: http://www.ti.com/; ComponentLink2Description: Datasheet; ComponentLink2URL: http://www.ti.com/lit/ds/symlink/cd4556b.pdf; ComponentLink3Description: Package Specification; ComponentLink3URL: http://www.ti.com/lit/ml/mpdi002c/mpdi002c.pdf
footprint N0016A (DIP, 16-Leads, Body 19.7x6.6mm, Pitch 2.54mm)
part A pins: 1 ~{E} (in), 2 A (in), 3 B (in), 4 ~{Q0} (out), 5 ~{Q1} (out), 6 ~{Q2} (out), 7 ~{Q3} (out)
part B pins: 9 ~{Q3} (out), 10 ~{Q2} (out), 11 ~{Q1} (out), 12 ~{Q0} (out), 13 B (in), 14 A (in), 15 ~{E} (in)
part C pins: 8 VSS (power), 16 VDD (power)

## CD4556BF
designator U?
CMOS Dual Binary to 1-of-4 Decoder/Demultiplexer with Outputs Low on Select, J0016A, TUBE; Generic Part Number: CD4556B-MIL; Manufacturer: Texas Instruments; PartNumber: CD4556BF; VCC(Max)(V): 18; VCC(Min)(V): 3; ICC @ Nom Voltage(Max)(mA): 0.3; F @ Nom Voltage(Max)(Mhz): 8; Channels(#): 2; Rating: Military; Technology Family: CD4000; Voltage(Nom)(V): 10; Schmitt Trigger: No; Output Drive (IOL/IOH)(Max)(mA): 1.5/-1.5; tpd @ Nom Voltage(Max)(ns): 190; DatasheetVersion: SCHS087D; PackageReference: J0016A; Output Type: CMOS; Input Type: CMOS; Operating Temperature Range(C): -55 to 125; ComponentLink1Description: Manufacturer URL; ComponentLink1URL: http://www.ti.com/; ComponentLink2Description: Datasheet; ComponentLink2URL: http://www.ti.com/lit/ds/symlink/cd4556b-mil.pdf; ComponentLink3Description: Package Specification; ComponentLink3URL: http://www.ti.com/lit/ml/mcer002d/mcer002d.pdf
footprint J0016A (DIP, 16-Leads, Body 21.35x7.2mm, Pitch 2.54mm)
part A pins: 1 ~{E} (in), 2 A (in), 3 B (in), 4 ~{Q0} (out), 5 ~{Q1} (out), 6 ~{Q2} (out), 7 ~{Q3} (out)
part B pins: 9 ~{Q3} (out), 10 ~{Q2} (out), 11 ~{Q1} (out), 12 ~{Q0} (out), 13 B (in), 14 A (in), 15 ~{E} (in)
part C pins: 8 VSS (power), 16 VDD (power)

## CD4556BF3A
designator U?
CMOS Dual Binary to 1-of-4 Decoder/Demultiplexer with Outputs Low on Select, J0016A, TUBE; Generic Part Number: CD4556B-MIL; Manufacturer: Texas Instruments; PartNumber: CD4556BF3A; VCC(Max)(V): 18; VCC(Min)(V): 3; ICC @ Nom Voltage(Max)(mA): 0.3; F @ Nom Voltage(Max)(Mhz): 8; Channels(#): 2; Rating: Military; Technology Family: CD4000; Voltage(Nom)(V): 10; Schmitt Trigger: No; Output Drive (IOL/IOH)(Max)(mA): 1.5/-1.5; tpd @ Nom Voltage(Max)(ns): 190; DatasheetVersion: SCHS087D; PackageReference: J0016A; Output Type: CMOS; Input Type: CMOS; Operating Temperature Range(C): -55 to 125; ComponentLink1Description: Manufacturer URL; ComponentLink1URL: http://www.ti.com/; ComponentLink2Description: Datasheet; ComponentLink2URL: http://www.ti.com/lit/ds/symlink/cd4556b-mil.pdf; ComponentLink3Description: Package Specification; ComponentLink3URL: http://www.ti.com/lit/ml/mcer002d/mcer002d.pdf
footprint J0016A (DIP, 16-Leads, Body 21.35x7.2mm, Pitch 2.54mm)
part A pins: 1 ~{E} (in), 2 A (in), 3 B (in), 4 ~{Q0} (out), 5 ~{Q1} (out), 6 ~{Q2} (out), 7 ~{Q3} (out)
part B pins: 9 ~{Q3} (out), 10 ~{Q2} (out), 11 ~{Q1} (out), 12 ~{Q0} (out), 13 B (in), 14 A (in), 15 ~{E} (in)
part C pins: 8 VSS (power), 16 VDD (power)

## CD4556BM
designator U?
CMOS Dual Binary to 1-of-4 Decoder/Demultiplexer with Outputs Low on Select, D0016A, TUBE; Generic Part Number: CD4556B; Manufacturer: Texas Instruments; PartNumber: CD4556BM; VCC(Max)(V): 18; VCC(Min)(V): 3; ICC @ Nom Voltage(Max)(mA): 0.3; F @ Nom Voltage(Max)(Mhz): 8; Configuration: 1：4; Channels(#): 2; Rating: Military; Technology Family: CD4000; Voltage(Nom)(V): 10; Schmitt Trigger: No; Output Drive (IOL/IOH)(Max)(mA): 1.5/-1.5; tpd @ Nom Voltage(Max)(ns): 190; DatasheetVersion: SCHS087D; PackageReference: D0016A; Supplier 1: Mouser; Supplier Part Number 1: 595-CD4556BM; Supplier 2: Digi-Key; Supplier Part Number 2: 296-32937-5-ND; Output Type: CMOS; Function: Decoder/Demultiplexer; Input Type: CMOS; Operating Temperature Range(C): -55 to 125; Type: Standard; Code_JEDEC: MS-012 variation AC; ComponentLink1Description: Manufacturer URL; ComponentLink1URL: http://www.ti.com/; ComponentLink2Description: Datasheet; ComponentLink2URL: http://www.ti.com/lit/ds/symlink/cd4556b.pdf; ComponentLink3Description: Package Specification; ComponentLink3URL: http://www.ti.com/lit/ml/mpds178g/mpds178g.pdf
footprint D0016A_N (SOIC, 16-Leads, Body 10x4mm, Pitch 1.27mm, IPC Medium Density)
footprint D0016A_M (SOIC, 16-Leads, Body 10x4mm, Pitch 1.27mm, IPC Low Density)
footprint D0016A_L (SOIC, 16-Leads, Body 10x4mm, Pitch 1.27mm, IPC High Density)
part A pins: 1 ~{E} (in), 2 A (in), 3 B (in), 4 ~{Q0} (out), 5 ~{Q1} (out), 6 ~{Q2} (out), 7 ~{Q3} (out)
part B pins: 9 ~{Q3} (out), 10 ~{Q2} (out), 11 ~{Q1} (out), 12 ~{Q0} (out), 13 B (in), 14 A (in), 15 ~{E} (in)
part C pins: 8 VSS (power), 16 VDD (power)

## CD4556BM96
designator U?
CMOS Dual Binary to 1-of-4 Decoder/Demultiplexer with Outputs Low on Select, D0016A, LARGE T&R; Generic Part Number: CD4556B; Manufacturer: Texas Instruments; PartNumber: CD4556BM96; VCC(Max)(V): 18; VCC(Min)(V): 3; ICC @ Nom Voltage(Max)(mA): 0.3; F @ Nom Voltage(Max)(Mhz): 8; Configuration: 1：4; Channels(#): 2; Rating: Military; Technology Family: CD4000; Voltage(Nom)(V): 10; Schmitt Trigger: No; Output Drive (IOL/IOH)(Max)(mA): 1.5/-1.5; tpd @ Nom Voltage(Max)(ns): 190; DatasheetVersion: SCHS087D; PackageReference: D0016A; Supplier 1: Mouser; Supplier Part Number 1: 595-CD4556BM96; Supplier 2: Digi-Key; Supplier Part Number 2: 296-31541-2-ND; Supplier 3: Digi-Key; Supplier Part Number 3: 296-31541-1-ND; Supplier 4: Digi-Key; Supplier Part Number 4: 296-31541-6-ND; Output Type: CMOS; Function: Decoder/Demultiplexer; Input Type: CMOS; Operating Temperature Range(C): -55 to 125; Type: Standard; Code_JEDEC: MS-012 variation AC; ComponentLink1Description: Manufacturer URL; ComponentLink1URL: http://www.ti.com/; ComponentLink2Description: Datasheet; ComponentLink2URL: http://www.ti.com/lit/ds/symlink/cd4556b.pdf; ComponentLink3Description: Package Specification; ComponentLink3URL: http://www.ti.com/lit/ml/mpds178g/mpds178g.pdf
footprint D0016A_N (SOIC, 16-Leads, Body 10x4mm, Pitch 1.27mm, IPC Medium Density)
footprint D0016A_M (SOIC, 16-Leads, Body 10x4mm, Pitch 1.27mm, IPC Low Density)
footprint D0016A_L (SOIC, 16-Leads, Body 10x4mm, Pitch 1.27mm, IPC High Density)
part A pins: 1 ~{E} (in), 2 A (in), 3 B (in), 4 ~{Q0} (out), 5 ~{Q1} (out), 6 ~{Q2} (out), 7 ~{Q3} (out)
part B pins: 9 ~{Q3} (out), 10 ~{Q2} (out), 11 ~{Q1} (out), 12 ~{Q0} (out), 13 B (in), 14 A (in), 15 ~{E} (in)
part C pins: 8 VSS (power), 16 VDD (power)

## CD4556BMT
designator U?
CMOS Dual Binary to 1-of-4 Decoder/Demultiplexer with Outputs Low on Select, D0016A, SMALL T&R; Generic Part Number: CD4556B; Manufacturer: Texas Instruments; PartNumber: CD4556BMT; VCC(Max)(V): 18; VCC(Min)(V): 3; ICC @ Nom Voltage(Max)(mA): 0.3; F @ Nom Voltage(Max)(Mhz): 8; Configuration: 1：4; Channels(#): 2; Rating: Military; Technology Family: CD4000; Voltage(Nom)(V): 10; Schmitt Trigger: No; Output Drive (IOL/IOH)(Max)(mA): 1.5/-1.5; tpd @ Nom Voltage(Max)(ns): 190; DatasheetVersion: SCHS087D; PackageReference: D0016A; Supplier 1: Mouser; Supplier Part Number 1: 595-CD4556BMT; Supplier 2: Digi-Key; Supplier Part Number 2: CD4556BMT-ND; Output Type: CMOS; Function: Decoder/Demultiplexer; Input Type: CMOS; Operating Temperature Range(C): -55 to 125; Type: Standard; Code_JEDEC: MS-012 variation AC; ComponentLink1Description: Manufacturer URL; ComponentLink1URL: http://www.ti.com/; ComponentLink2Description: Datasheet; ComponentLink2URL: http://www.ti.com/lit/ds/symlink/cd4556b.pdf; ComponentLink3Description: Package Specification; ComponentLink3URL: http://www.ti.com/lit/ml/mpds178g/mpds178g.pdf
footprint D0016A_N (SOIC, 16-Leads, Body 10x4mm, Pitch 1.27mm, IPC Medium Density)
footprint D0016A_M (SOIC, 16-Leads, Body 10x4mm, Pitch 1.27mm, IPC Low Density)
footprint D0016A_L (SOIC, 16-Leads, Body 10x4mm, Pitch 1.27mm, IPC High Density)
part A pins: 1 ~{E} (in), 2 A (in), 3 B (in), 4 ~{Q0} (out), 5 ~{Q1} (out), 6 ~{Q2} (out), 7 ~{Q3} (out)
part B pins: 9 ~{Q3} (out), 10 ~{Q2} (out), 11 ~{Q1} (out), 12 ~{Q0} (out), 13 B (in), 14 A (in), 15 ~{E} (in)
part C pins: 8 VSS (power), 16 VDD (power)

## CD4572UBE
designator U?
CMOS Hex Gate (with 4 Inverters, One 2-Input NOR Gate, and One 2-Input NAND Gate), N0016A, TUBE; Generic Part Number: CD4572UB; Manufacturer: Texas Instruments; PartNumber: CD4572UBE; VCC(Max)(V): 18; VCC(Min)(V): 3; ICC @ Nom Voltage(Max)(mA): 0.015; Bits(#): 6; F @ Nom Voltage(Max)(Mhz): 8; Rating: Catalog; Technology Family: CD4000; Voltage(Nom)(V): 10; Schmitt Trigger: No; Output Drive (IOL/IOH)(Max)(mA): 4/-4; tpd @ Nom Voltage(Max)(ns): 110; DatasheetVersion: SCHS090C; PackageReference: N0016A; Supplier 1: Mouser; Supplier Part Number 1: 595-CD4572UBE; Supplier 2: Digi-Key; Supplier Part Number 2: 296-14287-5-ND; Output Type: CMOS; Input Type: CMOS; Operating Temperature Range(C): -55 to 125; Code_JEDEC: MS-001; ComponentLink1Description: Manufacturer URL; ComponentLink1URL: http://www.ti.com/; ComponentLink2Description: Datasheet; ComponentLink2URL: http://www.ti.com/lit/ds/symlink/cd4572ub.pdf; ComponentLink3Description: Package Specification; ComponentLink3URL: http://www.ti.com/lit/ml/mpdi002c/mpdi002c.pdf
footprint N0016A (DIP, 16-Leads, Body 19.7x6.6mm, Pitch 2.54mm)
part A pins: 1 J (out), 2 A (in)
part B pins: 3 K (out), 4 B (in)
part C pins: 5 L (out), 6 C (in), 7 D (in)
part D pins: 9 M (out), 10 E (in)
part E pins: 11 N (out), 12 F (in)
part F pins: 13 P (out), 14 G (in), 15 H (in)
part G pins: 8 VSS (power), 16 VDD (power)

## CD4572UBM
designator U?
CMOS Hex Gate (with 4 Inverters, One 2-Input NOR Gate, and One 2-Input NAND Gate), D0016A, TUBE; Generic Part Number: CD4572UB; Manufacturer: Texas Instruments; PartNumber: CD4572UBM; VCC(Max)(V): 18; VCC(Min)(V): 3; ICC @ Nom Voltage(Max)(mA): 0.015; Bits(#): 6; F @ Nom Voltage(Max)(Mhz): 8; Rating: Catalog; Technology Family: CD4000; Voltage(Nom)(V): 10; Schmitt Trigger: No; Output Drive (IOL/IOH)(Max)(mA): 4/-4; tpd @ Nom Voltage(Max)(ns): 110; DatasheetVersion: SCHS090C; PackageReference: D0016A; Supplier 1: Mouser; Supplier Part Number 1: 595-CD4572UBM; Supplier 2: Digi-Key; Supplier Part Number 2: 296-32938-5-ND; Output Type: CMOS; Input Type: CMOS; Operating Temperature Range(C): -55 to 125; Code_JEDEC: MS-012 variation AC; ComponentLink1Description: Manufacturer URL; ComponentLink1URL: http://www.ti.com/; ComponentLink2Description: Datasheet; ComponentLink2URL: http://www.ti.com/lit/ds/symlink/cd4572ub.pdf; ComponentLink3Description: Package Specification; ComponentLink3URL: http://www.ti.com/lit/ml/mpds178g/mpds178g.pdf
footprint D0016A_N (SOIC, 16-Leads, Body 10x4mm, Pitch 1.27mm, IPC Medium Density)
footprint D0016A_M (SOIC, 16-Leads, Body 10x4mm, Pitch 1.27mm, IPC Low Density)
footprint D0016A_L (SOIC, 16-Leads, Body 10x4mm, Pitch 1.27mm, IPC High Density)
part A pins: 1 J (out), 2 A (in)
part B pins: 3 K (out), 4 B (in)
part C pins: 5 L (out), 6 C (in), 7 D (in)
part D pins: 9 M (out), 10 E (in)
part E pins: 11 N (out), 12 F (in)
part F pins: 13 P (out), 14 G (in), 15 H (in)
part G pins: 8 VSS (power), 16 VDD (power)

## CD4572UBNSR
designator U?
CMOS Hex Gate (with 4 Inverters, One 2-Input NOR Gate, and One 2-Input NAND Gate), NS0016A, LARGE T&R; Generic Part Number: CD4572UB; Manufacturer: Texas Instruments; PartNumber: CD4572UBNSR; VCC(Max)(V): 18; VCC(Min)(V): 3; ICC @ Nom Voltage(Max)(mA): 0.015; Bits(#): 6; F @ Nom Voltage(Max)(Mhz): 8; Rating: Catalog; Technology Family: CD4000; Voltage(Nom)(V): 10; Schmitt Trigger: No; Output Drive (IOL/IOH)(Max)(mA): 4/-4; tpd @ Nom Voltage(Max)(ns): 110; DatasheetVersion: SCHS090C; PackageReference: NS0016A; Supplier 1: Mouser; Supplier Part Number 1: 595-CD4572UBNSR; Supplier 2: Digi-Key; Supplier Part Number 2: 296-28933-2-ND; Supplier 3: Digi-Key; Supplier Part Number 3: 296-28933-1-ND; Supplier 4: Digi-Key; Supplier Part Number 4: 296-28933-6-ND; Output Type: CMOS; Input Type: CMOS; Operating Temperature Range(C): -55 to 125; ComponentLink1Description: Manufacturer URL; ComponentLink1URL: http://www.ti.com/; ComponentLink2Description: Datasheet; ComponentLink2URL: http://www.ti.com/lit/ds/symlink/cd4572ub.pdf; ComponentLink3Description: Package Specification; ComponentLink3URL: http://www.ti.com/lit/ml/msop002a/msop002a.pdf
footprint NS0016A_N (SOIC,16-Leads,Body 10.5x5.6mm,Pitch 1.27mm,IPC Medium Density)
footprint NS0016A_M (SOIC,16-Leads,Body 10.5x5.6mm,Pitch 1.27mm,IPC Low Density)
footprint NS0016A_L (SOIC,16-Leads,Body 10.5x5.6mm,Pitch 1.27mm,IPC High Density)
part A pins: 1 J (out), 2 A (in)
part B pins: 3 K (out), 4 B (in)
part C pins: 5 L (out), 6 C (in), 7 D (in)
part D pins: 9 M (out), 10 E (in)
part E pins: 11 N (out), 12 F (in)
part F pins: 13 P (out), 14 G (in), 15 H (in)
part G pins: 8 VSS (power), 16 VDD (power)

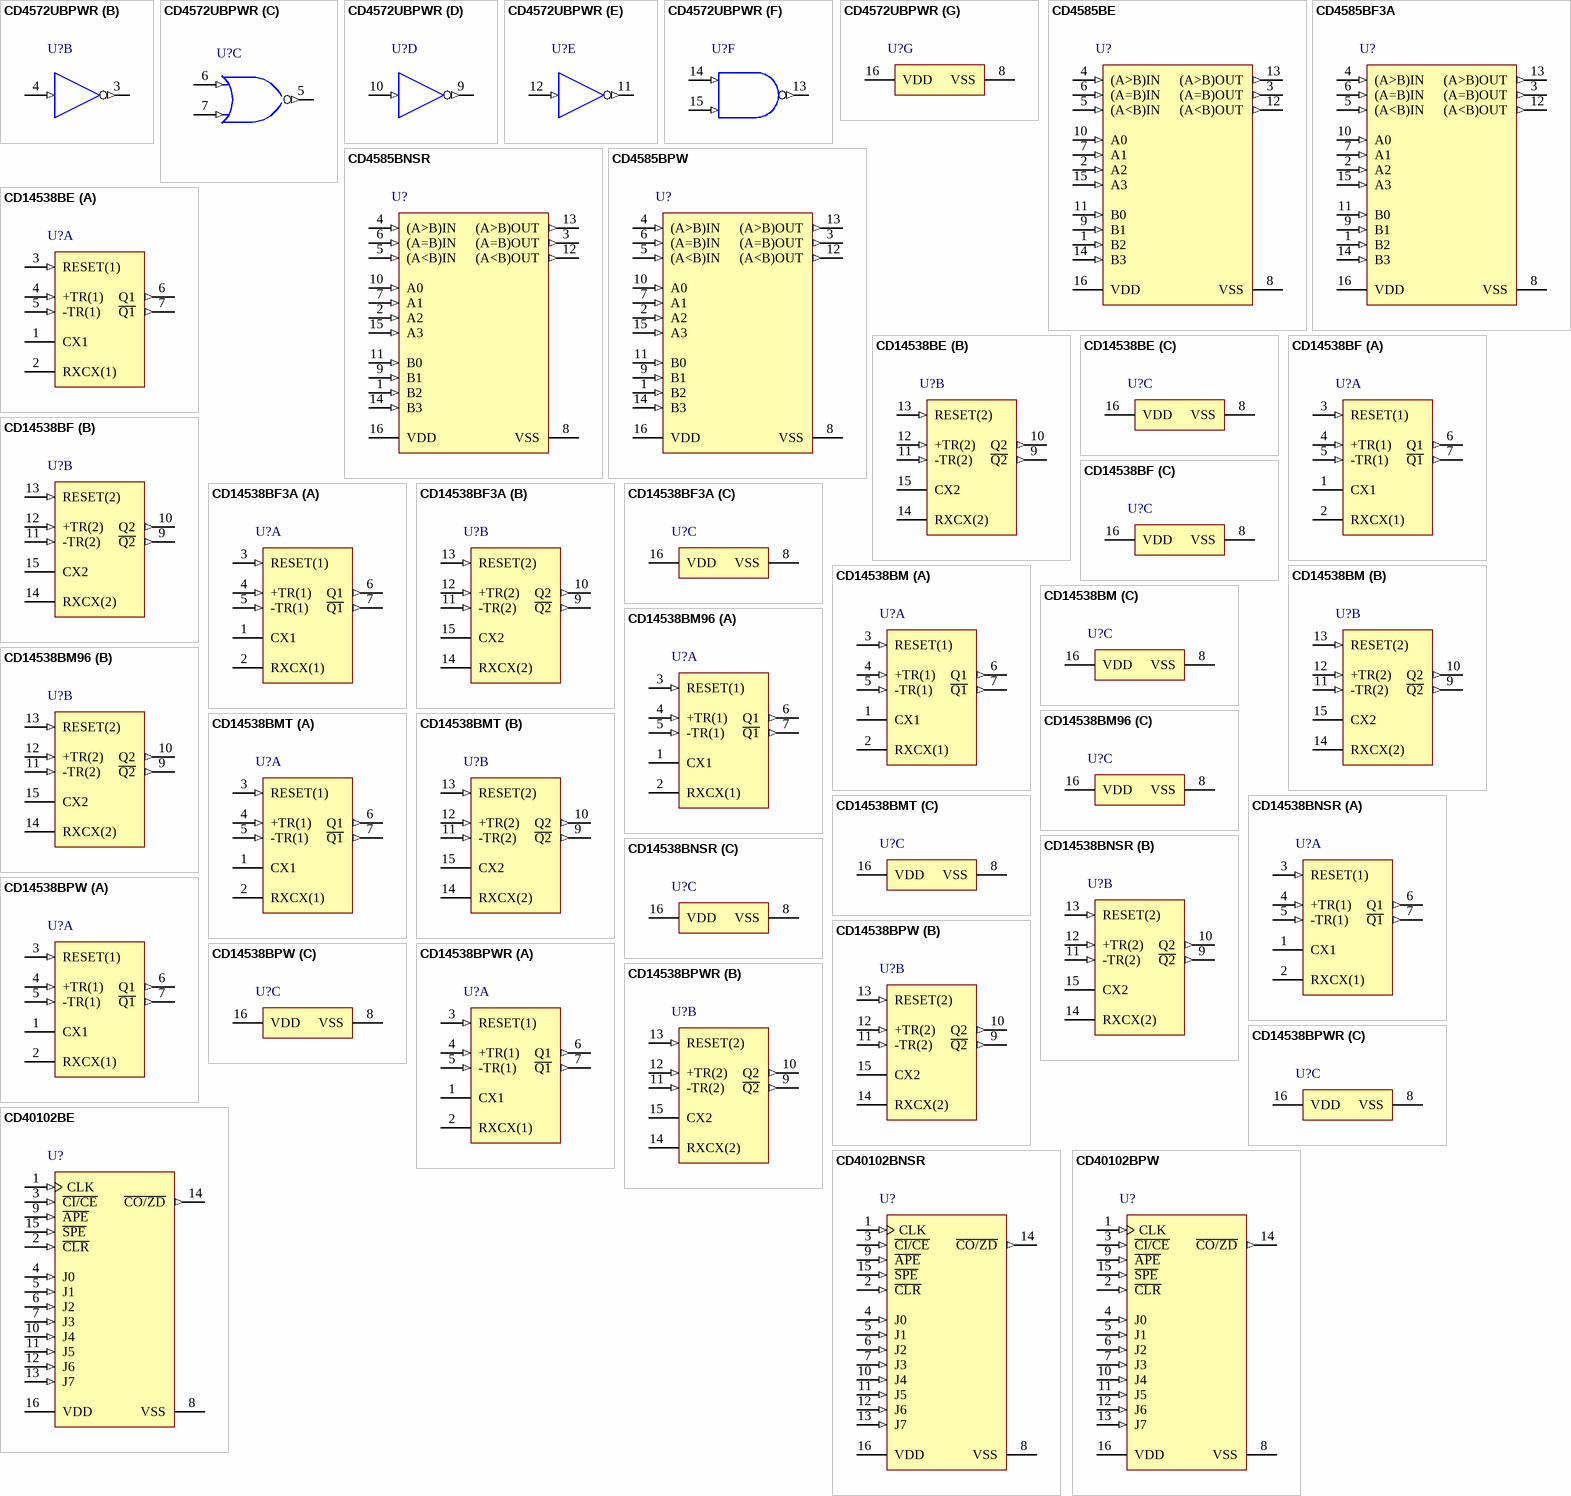
[diagram p33: symbols CD4572UBPWR to CD40102BPW]

## CD4572UBPWR
designator U?
CMOS Hex Gate (with 4 Inverters, One 2-Input NOR Gate, and One 2-Input NAND Gate), PW0016A, LARGE T&R; Generic Part Number: CD4572UB; Manufacturer: Texas Instruments; PartNumber: CD4572UBPWR; VCC(Max)(V): 18; VCC(Min)(V): 3; ICC @ Nom Voltage(Max)(mA): 0.015; Bits(#): 6; F @ Nom Voltage(Max)(Mhz): 8; Rating: Catalog; Technology Family: CD4000; Voltage(Nom)(V): 10; Schmitt Trigger: No; Output Drive (IOL/IOH)(Max)(mA): 4/-4; tpd @ Nom Voltage(Max)(ns): 110; DatasheetVersion: SCHS090C; PackageReference: PW0016A; Supplier 1: Mouser; Supplier Part Number 1: 595-CD4572UBPWR; Supplier 2: Digi-Key; Supplier Part Number 2: 296-38060-2-ND; Supplier 3: Digi-Key; Supplier Part Number 3: 296-38060-1-ND; Supplier 4: Digi-Key; Supplier Part Number 4: 296-38060-6-ND; Output Type: CMOS; Input Type: CMOS; Operating Temperature Range(C): -55 to 125; Code_JEDEC: MO-153; ComponentLink1Description: Manufacturer URL; ComponentLink1URL: http://www.ti.com/; ComponentLink2Description: Datasheet; ComponentLink2URL: http://www.ti.com/lit/ds/symlink/cd4572ub.pdf; ComponentLink3Description: Package Specification; ComponentLink3URL: http://www.ti.com/lit/ml/mpds361/mpds361.pdf
footprint PW0016A_N (SOP, 16-Leads, Body 5.1x4.5mm, Pitch 0.65mm, IPC Medium Density)
footprint PW0016A_M (SOP, 16-Leads, Body 5.1x4.5mm, Pitch 0.65mm, IPC Low Density)
footprint PW0016A_L (SOP, 16-Leads, Body 5.1x4.5mm, Pitch 0.65mm, IPC High Density)
part A pins: 1 J (out), 2 A (in)
part B pins: 3 K (out), 4 B (in)
part C pins: 5 L (out), 6 C (in), 7 D (in)
part D pins: 9 M (out), 10 E (in)
part E pins: 11 N (out), 12 F (in)
part F pins: 13 P (out), 14 G (in), 15 H (in)
part G pins: 8 VSS (power), 16 VDD (power)

## CD4585BE
designator U?
4-Bit Magnitude Comparators, N0016A, TUBE; Generic Part Number: CD4585B; Manufacturer: Texas Instruments; PartNumber: CD4585BE; VCC(Max)(V): 18; VCC(Min)(V): 3; Output Type: CMOS; ICC @ Nom Voltage(Max)(mA): 0.3; Bits(#): 4; F @ Nom Voltage(Max)(Mhz): 8; Rating: Military; Technology Family: CD4000; Voltage(Nom)(V): 10; Output Drive (IOL/IOH)(Max)(mA): 4/-4; tpd @ Nom Voltage(Max)(ns): 250; DatasheetVersion: SCHS091B; PackageReference: N0016A; Supplier 1: Mouser; Supplier Part Number 1: 595-CD4585BE; Supplier 2: Digi-Key; Supplier Part Number 2: 296-2080-5-ND; Input Type: CMOS; Operating Temperature Range(C): -55 to 125; ComponentLink1Description: Manufacturer URL; ComponentLink1URL: http://www.ti.com/; ComponentLink2Description: Datasheet; ComponentLink2URL: http://www.ti.com/lit/ds/symlink/cd4585b.pdf
footprint N0016A (DIP, 16-Leads, Body 19.7x6.6mm, Pitch 2.54mm)
pins: 1 B2 (in), 2 A2 (in), 3 (A=B)OUT (out), 4 (A>B)IN (in), 5 (A<B)IN (in), 6 (A=B)IN (in), 7 A1 (in), 8 VSS (power), 9 B1 (in), 10 A0 (in), 11 B0 (in), 12 (A<B)OUT (out), 13 (A>B)OUT (out), 14 B3 (in), 15 A3 (in), 16 VDD (power)